# EAGLE library part PR9020_TESTPOINTS (library PR_Parts_Library)
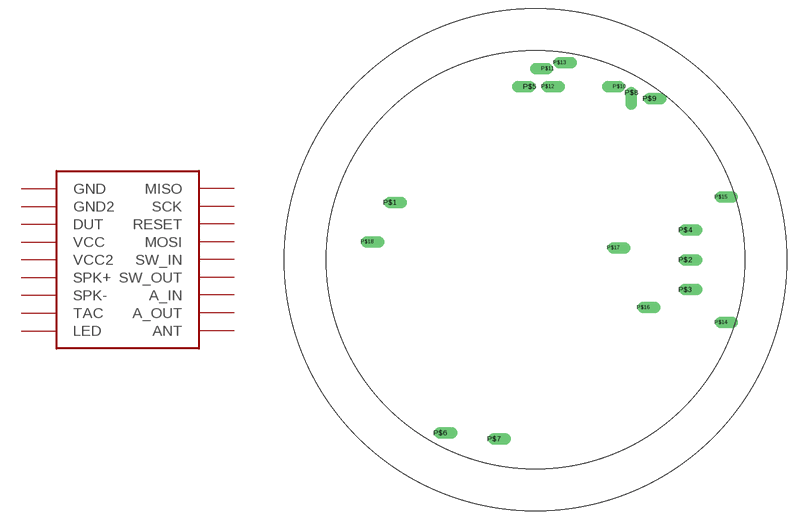
[diagram p8: symbol with the pads of PR9020_TESTPOINTS; footprint PR9020_TESTPOINTS]

Designator prefix -

## PR9020_TESTPOINTS  [PR9020_TESTPOINTS]
P$1  GND
P$2  GND2
P$3  DUT
P$4  VCC
P$5  VCC2
P$6  SPK+
P$7  SPK-
P$8  TAC
P$9  LED
P$10  MISO
P$11  SCK
P$12  RESET
P$13  MOSI
P$14  SW_IN
P$15  SW_OUT
P$16  A_IN
P$17  A_OUT
P$18  ANT

## Footprint PR9020_TESTPOINTS (pad centres in mm)
drill 1.3 pad 1.3 offset: P$1 10.6,44.6; P$2 60,35; P$3 60,30; P$4 60,40; P$5 34,64; P$6 19,6; P$7 28,5; P$8 51,63; P$9 54,62; P$10 49,64; P$11 37,67; P$12 37,64; P$13 39,68; P$14 66,24.5; P$15 66,45.5; P$16 53,27; P$17 48,37; P$18 6.8,38